# Altium integrated library 1725669.IntLib: 1 symbol
Pins are listed as number, name and electrical type; pins without a type are passive.

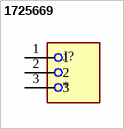
[diagram p0: symbol 1725669]

## 1725669
designator J?
Vis de borne PCB 2,54 mm 20AWG 160V 6A 3 positions COMBICON MPT Series ¦ PhÃ©nix Contacter 1725669; MF: Phoenix Contact; SnapEDA_Link: https://www.snapeda.com/parts/1725669/Phoenix+Contact/view-part/?ref=snap; Package: None; Value: *; MP: 1725669; Check_prices: https://www.snapeda.com/parts/1725669/Phoenix+Contact/view-part/?ref=eda
footprint PHOENIX_1725669
pins: 1, 2, 3